# Altium schematic symbol library ABM8-272-T3.SchLib: 1 symbol
Pins are listed as number, name and electrical type; pins without a type are passive.

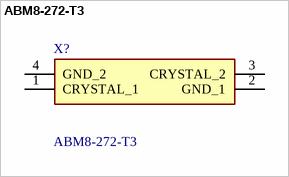
[diagram p0: symbol ABM8-272-T3]

## ABM8-272-T3
designator X?
Crystal, 12 MHz, SMD, 3.2mm x 2.5mm, 30 ppm, 10 pF, 30 ppm, ABM8 Series; Manufacturer_Name: ABRACON; Geometry.Height: 0.8mm; Mouser Part Number: 815-ABM8-272-T3; Mouser Price/Stock: https://www.mouser.co.uk/ProductDetail/ABRACON/ABM8-272-T3?qs=QpmGXVUTftEj6miOiJBMxQ%3D%3D; Manufacturer_Part_Number: ABM8-272-T3; Datasheet Link: https://abracon.com/datasheets/ABM8-272-T3.pdf
footprint ABM8272T3
pins: 1 CRYSTAL_1, 2 GND_1, 3 CRYSTAL_2, 4 GND_2